# EAGLE library part TPS61222 (library texas-instruments)
Boost Switching Regulator IC Positive Fixed 5V 1 Output 200mA
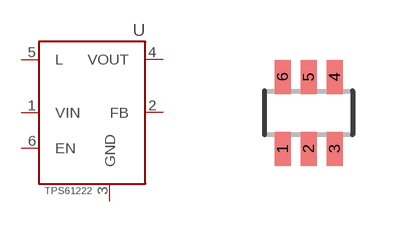
[diagram p42: symbol with the pads of SOT363; footprint SOT363]

Designator prefix U

## TPS61222 (DIGIKEY: 296-24172-6-ND; MFR: Texas Instruments; MPN: TPS61222DCKT; P1I: o)  [SOT363]
1  VIN
2  FB
3  GND
4  VOUT
5  L
6  EN

## Footprint SOT363 (pad centres in mm)
Small Outline Transistor; 6 leads
smd 0.4 x 0.85: 1 -0.65,-0.9; 2 0,-0.9; 3 0.65,-0.9; 4 0.65,0.9; 5 0,0.9; 6 -0.65,0.9